# Altium footprint library USB-A-TH_AF-WJDG.PcbLib: 1 footprints
Each footprint in its own frame and in the unit in brackets; x right, y up, seen from the top. Pads: shape width x height; smd on the part's side, far side on the other; paste and mask are expansions set on the pad; w line width, h text height; cw(c..) or ccw(c..) is an arc to the next point about the centre after c.
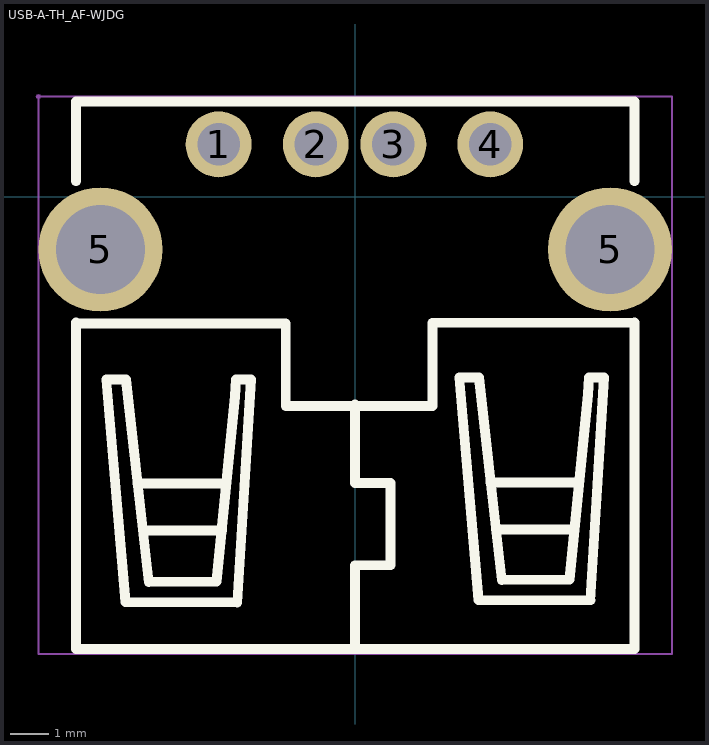
[diagram p0: the footprint, top view; thin cyan lines are the x and y axes]

## USB-A-TH_AF-WJDG [mm]
pads (6):
  round 1.7 / inner round 1.524 / far side round 1.524 hole 1.1: 1(-3.52,1.355) 2(-1.019,1.355) 3(0.98,1.355) 4(3.48,1.355)
  round 3.2 / inner round 1.524 / far side round 1.524 hole 2.3: 5(-6.57,-1.355) 5(6.57,-1.355)
Top Overlay:
  lines w0.254: -7.199,-3.236 -7.199,-11.655 7.201,-11.655 7.201,-3.236 ; -7.199,0.404 -7.199,2.46 7.201,2.46 7.201,0.404 ; -7.19,-3.266 -1.79,-3.266 -1.79,-5.385 1.99,-5.385 1.99,-3.245 7.19,-3.245 ; -5.609,-7.385 -3.349,-7.385 ; -5.469,-8.595 -3.439,-8.595 ; -0.01,-11.525 -0.01,-9.495 0.91,-9.495 0.91,-7.375 -0.01,-7.375 -0.01,-5.355 ; 3.49,-7.366 5.75,-7.366 ; 3.63,-8.576 5.66,-8.576 ; -6.42,-4.706 -5.925,-10.441 -3.041,-10.452 -2.691,-4.709 -3.072,-4.709 -3.102,-5.139 -3.576,-9.917 -5.325,-9.928 -5.401,-9.25 -5.911,-4.709 -6.42,-4.706 ; 2.682,-4.652 3.177,-10.387 6.06,-10.398 6.41,-4.655 6.03,-4.655 6,-5.085 5.526,-9.864 3.776,-9.874 3.701,-9.196 3.19,-4.656 2.682,-4.652
Mechanical 15:
  region: 3.938,1.355 3.904,1.525 3.804,1.674 3.655,1.774 3.48,1.809 3.304,1.774 3.155,1.674 3.056,1.525 3.022,1.355 3.056,1.185 3.155,1.036 3.304,0.937 3.48,0.902 3.655,0.937 3.804,1.036 3.904,1.185
  region: 1.438,1.355 1.404,1.525 1.305,1.674 1.156,1.774 0.98,1.809 0.805,1.774 0.656,1.674 0.557,1.525 0.523,1.355 0.557,1.185 0.656,1.036 0.805,0.937 0.98,0.902 1.156,0.937 1.305,1.036 1.404,1.185
  region: -0.561,1.355 -0.595,1.525 -0.694,1.674 -0.843,1.774 -1.019,1.809 -1.194,1.774 -1.343,1.674 -1.442,1.525 -1.476,1.355 -1.442,1.185 -1.343,1.036 -1.194,0.937 -1.019,0.902 -0.843,0.937 -0.694,1.036 -0.595,1.185
  region: -3.063,1.355 -3.097,1.525 -3.196,1.674 -3.345,1.774 -3.52,1.809 -3.696,1.774 -3.845,1.674 -3.944,1.525 -3.978,1.355 -3.944,1.185 -3.845,1.036 -3.696,0.937 -3.52,0.902 -3.345,0.937 -3.196,1.036 -3.097,1.185
  region: -5.512,-1.355 -5.547,-1.092 -5.653,-0.836 -5.821,-0.617 -6.04,-0.449 -6.296,-0.343 -6.57,-0.307 -6.844,-0.343 -7.099,-0.449 -7.319,-0.617 -7.487,-0.836 -7.593,-1.092 -7.628,-1.355 -7.593,-1.618 -7.487,-1.873 -7.319,-2.093 -7.099,-2.261 -6.844,-2.367 -6.57,-2.403 -6.296,-2.367 -6.04,-2.261 -5.821,-2.093 -5.653,-1.873 -5.547,-1.618
  region: 7.628,-1.355 7.593,-1.092 7.487,-0.836 7.319,-0.617 7.1,-0.449 6.844,-0.343 6.57,-0.307 6.296,-0.343 6.04,-0.449 5.821,-0.617 5.653,-0.836 5.547,-1.092 5.512,-1.355 5.547,-1.618 5.653,-1.873 5.821,-2.093 6.04,-2.261 6.296,-2.367 6.57,-2.403 6.844,-2.367 7.1,-2.261 7.319,-2.093 7.487,-1.873 7.593,-1.618
  region: -8.105,2.587 -8.124,2.633 -8.17,2.652 -8.216,2.633 -8.235,2.588 -8.235,2.587 -8.216,2.542 -8.17,2.523 -8.124,2.542
  lines w0.051: -8.17,-11.782 8.17,-11.782 8.17,2.587 -8.17,2.587 -8.17,-11.782